# EAGLE library part AD5933YRSZ (library AD5933YRSZ)
AD5933YRSZ, Impedance Converter, 16-Pin SSOP Source: Datasheet <http://www.analog.com/static/imported-files/data_sheets/AD5933.pdf>
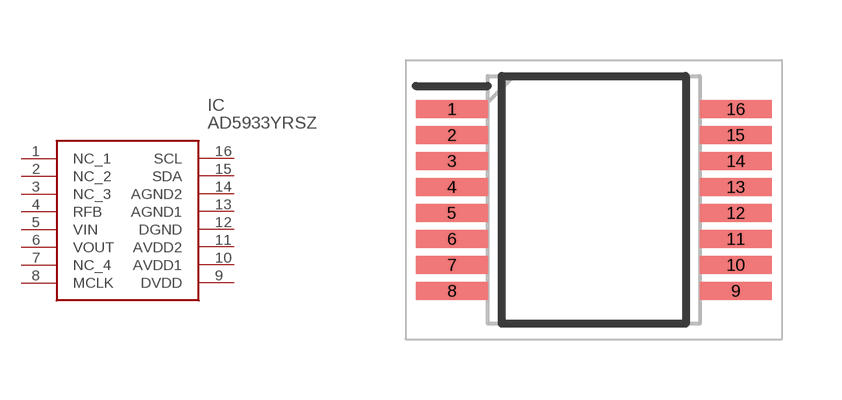
[diagram p0: symbol with the pads of SOP65P780X200-16N; footprint SOP65P780X200-16N]

Designator prefix IC

## AD5933YRSZ (Description: AD5933YRSZ, Impedance Converter, 16-Pin SSOP; Height: 2mm; Manufacturer_Name: Analog Devices; Manufacturer_Part_Number: AD5933YRSZ; Mouser_Part_Number: 584-AD5933YRSZ; Mouser_Price-Stock: https://www.mouser.co.uk/ProductDetail/Analog-Devices/AD5933YRSZ?qs=NmRFExCfTkHN0vttR%252B%2Fp9A%3D%3D)  [SOP65P780X200-16N]
1  NC_1
2  NC_2
3  NC_3
4  RFB
5  VIN
6  VOUT
7  NC_4
8  MCLK
9  DVDD
10  AVDD1
11  AVDD2
12  DGND
13  AGND1
14  AGND2
15  SDA
16  SCL

## Footprint SOP65P780X200-16N (pad centres in mm)
RS-16
smd 1.8 x 0.45: 1 -3.55,2.275; 2 -3.55,1.625; 3 -3.55,0.975; 4 -3.55,0.325; 5 -3.55,-0.325; 6 -3.55,-0.975; 7 -3.55,-1.625; 8 -3.55,-2.275; 9 3.55,-2.275; 10 3.55,-1.625; 11 3.55,-0.975; 12 3.55,-0.325; 13 3.55,0.325; 14 3.55,0.975; 15 3.55,1.625; 16 3.55,2.275